# Altium schematic symbol library Op Amp - Quad.Schlib: 1 symbol
Pins are listed as number, name and electrical type; pins without a type are passive.

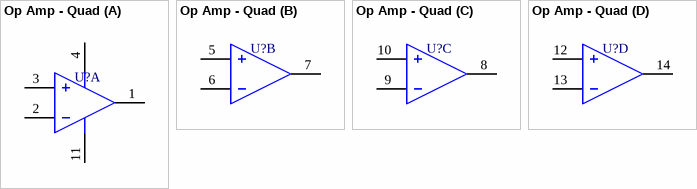
[diagram p0: symbol Op Amp - Quad]

## Op Amp - Quad
designator U?
part A pins: 1 OUTA, 2 -IN A, 3 +IN A, 4 V+, 11 V-
part B pins: 5 +IN B, 6 -IN B, 7 OUTB
part C pins: 8 OUTC, 9 -IN C, 10 +IN C
part D pins: 12 +IN D, 13 -IN D, 14 OUTD